# Altium footprint library SSD1306.PcbLib: 1 footprints
Each footprint in its own frame and in the unit in brackets; x right, y up, seen from the top. Pads: shape width x height; smd on the part's side, far side on the other; paste and mask are expansions set on the pad; w line width, h text height; cw(c..) or ccw(c..) is an arc to the next point about the centre after c.
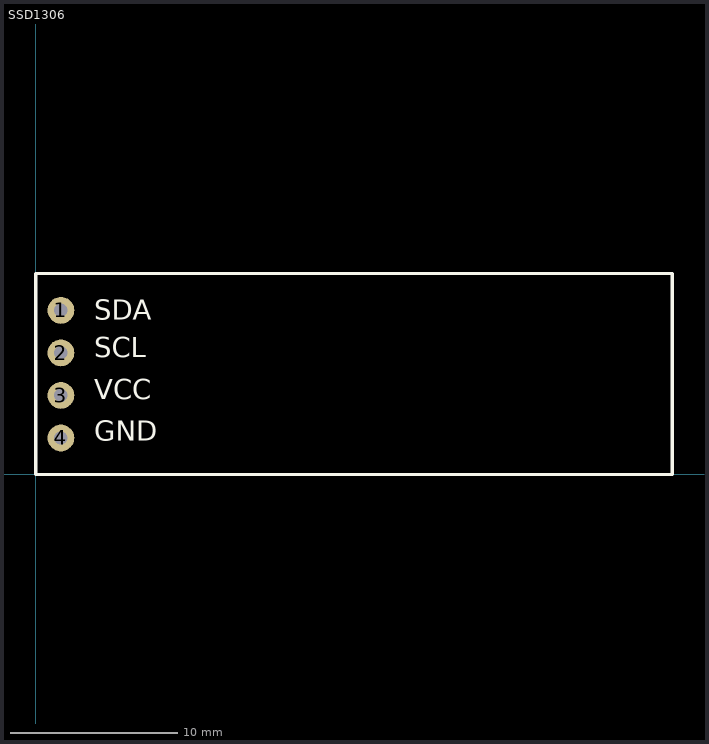
[diagram p0: the footprint, top view; thin cyan lines are the x and y axes]

## SSD1306 [mm]
pads (4):
  round 1.6 hole 0.8: 1(1.5,9.8) 2(1.5,7.26) 3(1.5,4.72) 4(1.5,2.18)
Top Overlay:
  lines w0.2: 0,0 0,12 38,12 38,0 0,0
  text "GND" at 3.5,2 h1.2
  text "VCC" at 3.5,4.5 h1.2
  text "SDA" at 3.5,9.25 h1.2
  text "SCL" at 3.5,7 h1.2